# EAGLE library part DSPIC30F4011-30I_P (library DSPIC30F4011-30I_P)
Digital Signal Controllers Source: Datasheet <https://componentsearchengine.com/Datasheets/5/DSPIC30F4011-30I_P.pdf>
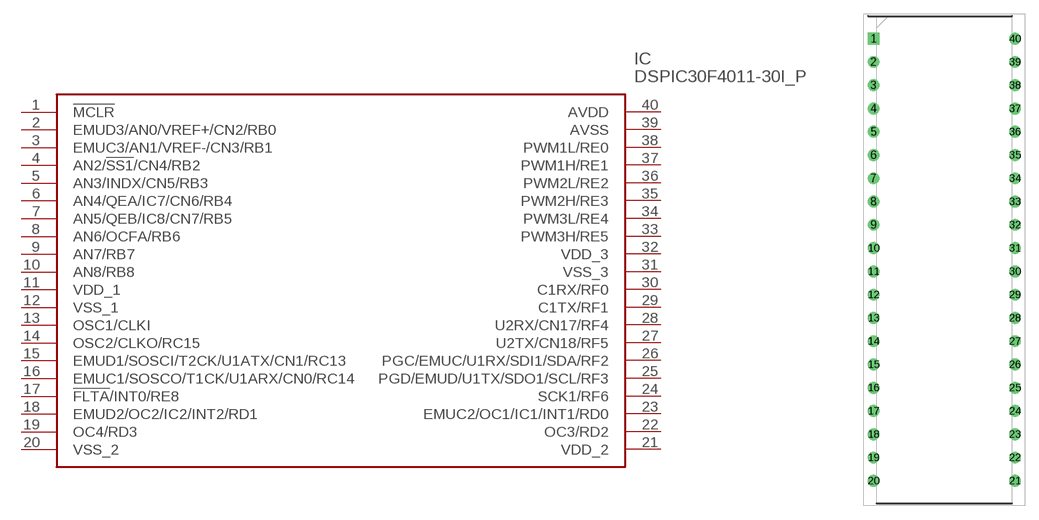
[diagram p0: symbol with the pads of DIP1543W58P254L5175H635Q40N; footprint DIP1543W58P254L5175H635Q40N]

Designator prefix IC

## DSPIC30F4011-30I_P (Arrow_Part_Number: dsPIC30F4011-30I/P; Arrow_Price-Stock: https://www.arrow.com/en/products/dspic30f4011-30ip/microchip-technology; Description: Digital Signal Controllers; Height: 6.35mm; Manufacturer_Name: Microchip; Manufacturer_Part_Number: DSPIC30F4011-30I/P; Mouser_Part_Number: 579-30F4011-30I/P; Mouser_Price-Stock: https://www.mouser.co.uk/ProductDetail/Microchip-Technology/dsPIC30F4011-30I-P?qs=nMCt4TBfEwpnzUUd8LIZNg%3D%3D)  [DIP1543W58P254L5175H635Q40N]
1  !MCLR
2  EMUD3/AN0/VREF+/CN2/RB0
3  EMUC3/AN1/VREF-/CN3/RB1
4  AN2/!SS1!/CN4/RB2
5  AN3/INDX/CN5/RB3
6  AN4/QEA/IC7/CN6/RB4
7  AN5/QEB/IC8/CN7/RB5
8  AN6/OCFA/RB6
9  AN7/RB7
10  AN8/RB8
11  VDD_1
12  VSS_1
13  OSC1/CLKI
14  OSC2/CLKO/RC15
15  EMUD1/SOSCI/T2CK/U1ATX/CN1/RC13
16  EMUC1/SOSCO/T1CK/U1ARX/CN0/RC14
17  !FLTA!/INT0/RE8
18  EMUD2/OC2/IC2/INT2/RD1
19  OC4/RD3
20  VSS_2
21  VDD_2
22  OC3/RD2
23  EMUC2/OC1/IC1/INT1/RD0
24  SCK1/RF6
25  PGD/EMUD/U1TX/SDO1/SCL/RF3
26  PGC/EMUC/U1RX/SDI1/SDA/RF2
27  U2TX/CN18/RF5
28  U2RX/CN17/RF4
29  C1TX/RF1
30  C1RX/RF0
31  VSS_3
32  VDD_3
33  PWM3H/RE5
34  PWM3L/RE4
35  PWM2H/RE3
36  PWM2L/RE2
37  PWM1H/RE1
38  PWM1L/RE0
39  AVSS
40  AVDD

## Footprint DIP1543W58P254L5175H635Q40N (pad centres in mm)
40 ld PDIP (P) 600 mil
drill 0.784 pad 1.184 square: 1 -7.715,24.13
drill 0.784 pad 1.184: 2 -7.715,21.59; 3 -7.715,19.05; 4 -7.715,16.51; 5 -7.715,13.97; 6 -7.715,11.43; 7 -7.715,8.89; 8 -7.715,6.35; 9 -7.715,3.81; 10 -7.715,1.27; 11 -7.715,-1.27; 12 -7.715,-3.81; 13 -7.715,-6.35; 14 -7.715,-8.89; 15 -7.715,-11.43; 16 -7.715,-13.97; 17 -7.715,-16.51; 18 -7.715,-19.05; 19 -7.715,-21.59; 20 -7.715,-24.13; 21 7.715,-24.13; 22 7.715,-21.59; 23 7.715,-19.05; 24 7.715,-16.51; 25 7.715,-13.97; 26 7.715,-11.43; 27 7.715,-8.89; 28 7.715,-6.35; 29 7.715,-3.81; 30 7.715,-1.27; 31 7.715,1.27; 32 7.715,3.81; 33 7.715,6.35; 34 7.715,8.89; 35 7.715,11.43; 36 7.715,13.97; 37 7.715,16.51; 38 7.715,19.05; 39 7.715,21.59; 40 7.715,24.13